# Altium footprint library bournier 1x02.PcbLib: 1 footprints
Each footprint in its own frame and in the unit in brackets; x right, y up, seen from the top. Pads: shape width x height; smd on the part's side, far side on the other; paste and mask are expansions set on the pad; w line width, h text height; cw(c..) or ccw(c..) is an arc to the next point about the centre after c.
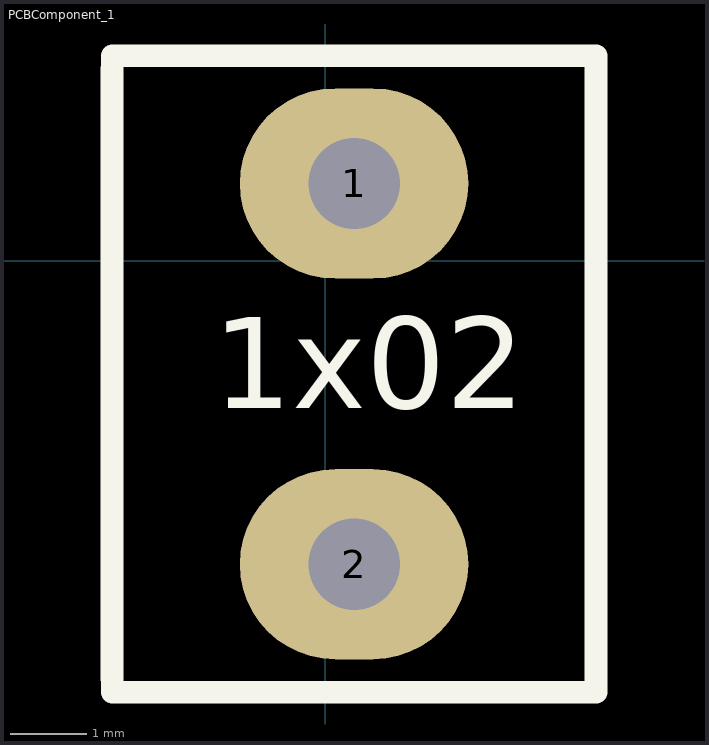
[diagram p0: the footprint, top view; thin cyan lines are the x and y axes]

## PCBComponent_1 [mm]
pads (2):
  oval 3x2.5 hole 1.2: 1(0.381,1.016) 2(0.381,-3.984)
Top Overlay:
  lines w0.3: -2.796,-5.484 -2.796,2.517 ; -2.794,-5.664 3.556,-5.664 3.556,2.692 -2.794,2.692 -2.794,-5.664
  text "1x02" at -1.478,-1.935 h1.2